# Altium schematic symbol library VoltageReference.SchLib: 5 symbols
Pins are listed as number, name and electrical type; pins without a type are passive.

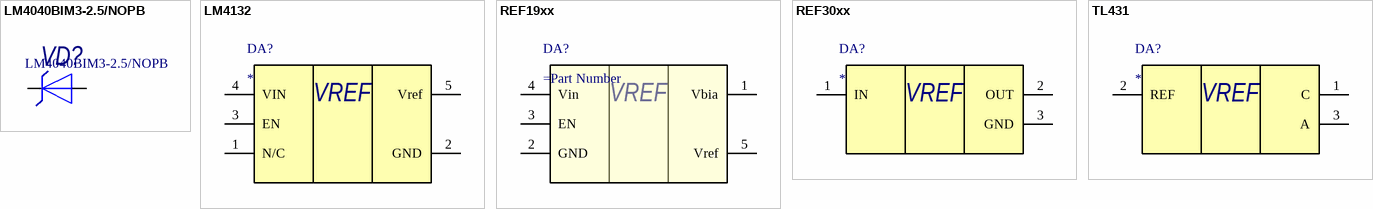
[diagram p0: symbols LM4040BIM3-2.5/NOPB to TL431]

## LM4040BIM3-2.5/NOPB
designator VD?
Прецезионный источник опорного напряжения
pins: 1 K, 2 A

## LM4132
designator DA?
Precision Low Dropout Voltage Reference
pins: 1 N/C, 2 GND, 3 EN, 4 VIN, 5 Vref
text: VREF

## REF19xx
designator DA?
, Dual-Output, VREF and VREF / 2 Voltage References
pins: 1 Vbia, 2 GND, 3 EN, 4 Vin, 5 Vref
text: VREF

## REF30xx
designator DA?
CMOS Voltage Reference
pins: 1 IN, 2 OUT, 3 GND
text: VREF

## TL431
designator DA?
Программируемый стабилитрон
pins: 1 C, 2 REF, 3 A
text: VREF